# Altium schematic symbol library Isolated Voltage Converter.SchLib: 2 symbols
Pins are listed as number, name and electrical type; pins without a type are passive.

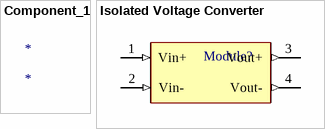
[diagram p0: symbols Component_1 to Isolated Voltage Converter]

## Component_1
designator *

## Isolated Voltage Converter
designator Module?
Part Number: LM2596 Regulator Module; Additionner: M.Moghimi; Adding Time: 1400/06/19
footprint LM2596 Module (LM2596 Regulator Module)
pins: 1 Vin+ (in), 2 Vin- (in), 3 Vout+ (out), 4 Vout- (out)